# EAGLE library part HE721C0500 (library open_covg)
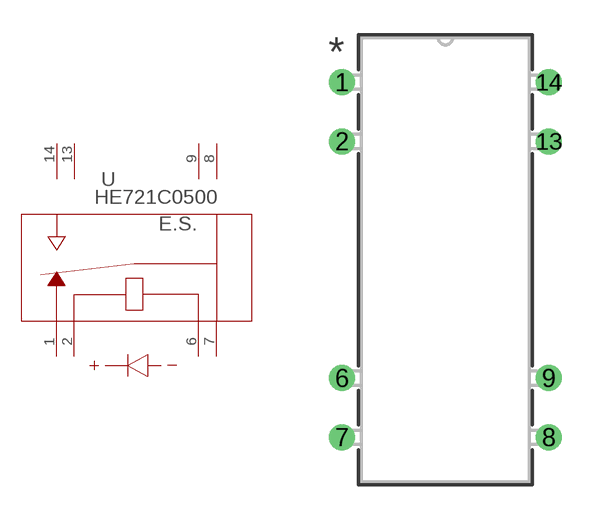
[diagram p28: symbol with the pads of HE700_LTF; footprint HE700_LTF]

Designator prefix U

## HE721C0500 (BUILT_BY: EMA_Cory; COPYRIGHT: Copyright (C) 2018 Accelerated Designs. All rights reserved; MANUFACTURER_PART_NUMBER: HE721C0500; SOURCELIBRARY: Littlefuse_2019-12-02; VENDOR: Littelfuse Inc)  [HE700_LTF]
1  1  pas
2  2  pas
6  6  pas
7  7  pas
8  8  pas
9  9  pas
13  13  pas
14  14  pas

## Footprint HE700_LTF (pad centres in mm)
drill 0.61 pad 1.118: 1 0,0; 2 0,-2.54; 6 0,-12.7; 7 0,-15.24; 8 8.89,-15.24; 9 8.89,-12.7; 13 8.89,-2.54; 14 8.89,0